# Altium footprint library TC2030.PcbLib: 1 footprints
Each footprint in its own frame and in the unit in brackets; x right, y up, seen from the top. Pads: shape width x height; smd on the part's side, far side on the other; paste and mask are expansions set on the pad; w line width, h text height; cw(c..) or ccw(c..) is an arc to the next point about the centre after c.
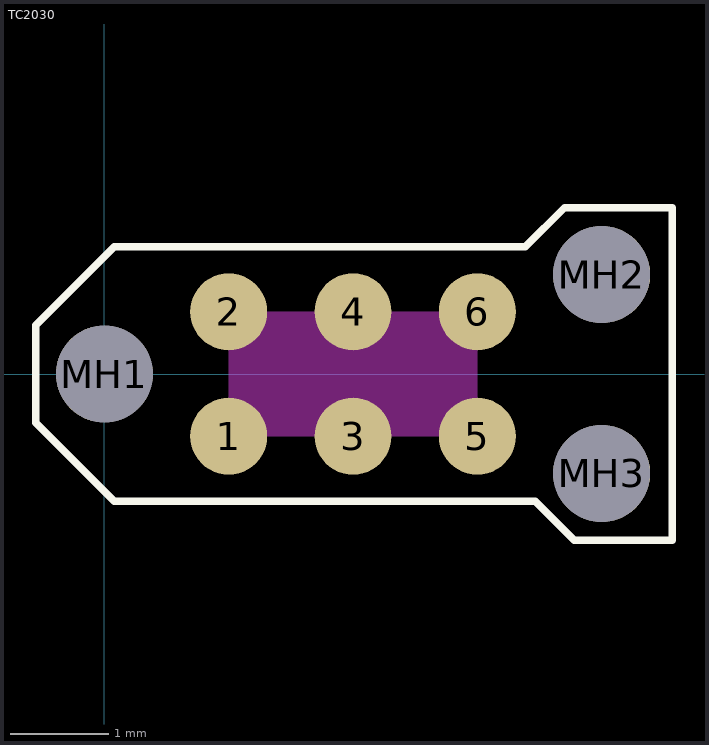
[diagram p0: the footprint, top view; thin cyan lines are the x and y axes]

## TC2030 [mil]
pads (9):
  round 30.98 smd: 1(50,-25) 2(50,25) 3(100,-25) 4(100,25) 5(150,-25) 6(150,25)
  round 39.02 hole 39.02 unplated: MH1(0,0) MH2(200,40) MH3(200,-40)
Top Layer keep-out:
  region: 50,25 150,25 150,-25 50,-25
Top Overlay:
  lines w3: -27.56,-19.68 3.94,-51.18 173.23,-51.18 188.98,-66.93 228.35,-66.93 228.35,66.93 185.04,66.93 169.29,51.18 3.94,51.18 -27.56,19.68 -27.56,-19.68